# Altium schematic symbol library Interface-Controllers.SchLib: 2 symbols
Pins are listed as number, name and electrical type; pins without a type are passive.

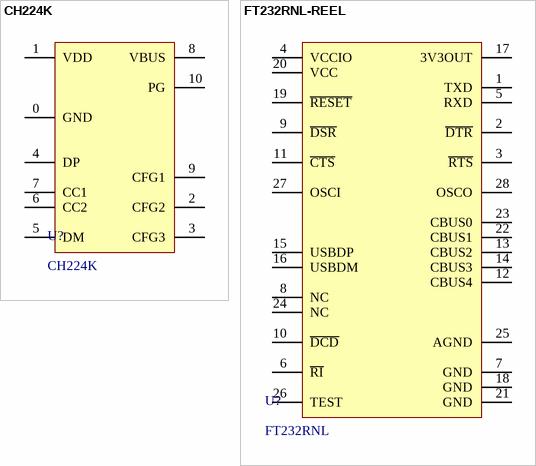
[diagram p0: symbols CH224K to FT232RNL-REEL]

## CH224K
designator U?
USB PD CONTROLLER
footprint 10-ESSOP
pins: 0 GND, 1 VDD, 2 CFG2, 3 CFG3, 4 DP, 5 DM, 6 CC2, 7 CC1, 8 VBUS, 9 CFG1, 10 PG

## FT232RNL-REEL
designator U?, comment FT232RNL
USB FULL SPEED TO SERIAL UART IC; Manufacturer: FTDI; Manufacturer Part Number: FT232RNL-REEL; Supplier: Digikey; Supplier Part Number: 768-FT232RNL-REELCT-ND; RoHS: No; Category: USB Interface ICs; Stock: 32673; Pricing: 1=4.8, 10=4.35, 50=4.15, 100=3.95, 250=3.55, 500=3.15, 1000=2.95 (USD); ComponentLink1URL: https://datasheet.octopart.com/FT232RNL-REEL-FTDI-datasheet-165562270.pdf?src-supplier=SOS+electronic; ComponentLink1Description: https://datasheet.octopart.com/FT232RNL-REEL-FTDI-datasheet-165562270.pdf?src-supplier=SOS+electronic
footprint FP-FT232RNL
pins: 1 TXD, 2 ~{DTR}, 3 ~{RTS}, 4 VCCIO, 5 RXD, 6 ~{RI}, 7 GND, 8 NC, 9 ~{DSR}, 10 ~{DCD}, 11 ~{CTS}, 12 CBUS4, 13 CBUS2, 14 CBUS3, 15 USBDP, 16 USBDM, 17 3V3OUT, 18 GND, 19 ~{RESET}, 20 VCC, 21 GND, 22 CBUS1, 23 CBUS0, 24 NC, 25 AGND, 26 TEST, 27 OSCI, 28 OSCO